# EAGLE library part REC20K-2415DZ (library REC20K-2415DZ)
20W DC/DC-Converter 'ECONOLINE' 1"x1" 2kV reg 4:1 Source: Datasheet <https://recom-power.com/pdf/Econoline/REC20K-Z.pdf>
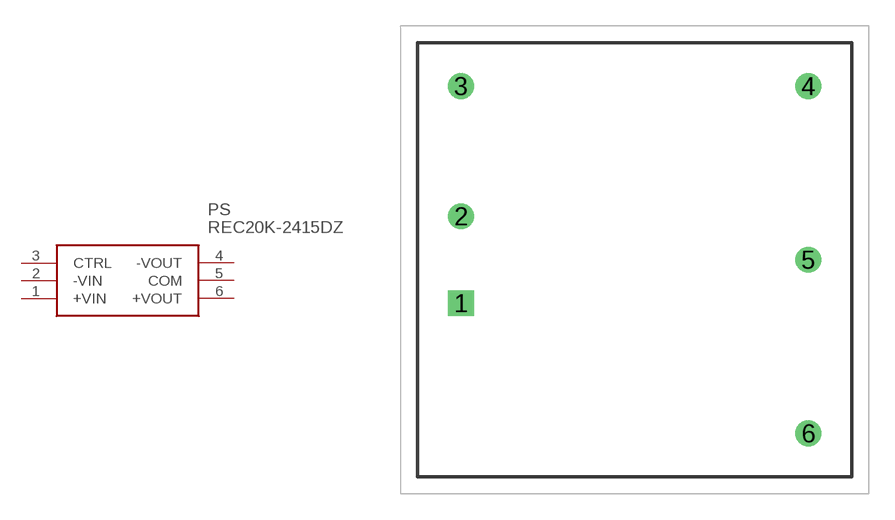
[diagram p0: symbol with the pads of REC20K; footprint REC20K]

Designator prefix PS

## REC20K-2415DZ (Description: 20W DC/DC-Converter 'ECONOLINE' 1"x1" 2kV reg 4:1; Height: mm; Manufacturer_Name: RECOM Power; Manufacturer_Part_Number: REC20K-2415DZ)  [REC20K]
1  +VIN
2  -VIN
3  CTRL
4  -VOUT
5  COM
6  +VOUT

## Footprint REC20K (pad centres in mm)
REC20K
drill 1 pad 1.5 square: 1 0,0
drill 1 pad 1.5: 2 0,5.08; 3 0,12.7; 4 20.32,12.7; 5 20.32,2.54; 6 20.32,-7.62